# EAGLE library part A133-1034M2 (library saw-filters-narrowband)
A133-1034M2 Параметр Ед. изм. Мин. значение Тип. значение Макс. значение Центральная частота МГц 1033 1034 1035 Минимальное вносимое затухание дБ - 2.6 3.5 Полоса среза по уровню -2 дБ МГц 21 22 23 Полоса среза по уровню -28 дБ МГц - 51 - Неравномерность АЧХ дБ - 0.6 1.5 Групповое время задержки нс - - - Гарантированное затухание дБ - 40 - Температурный диапазон °C -55 22 +85 Материал подложки - - Танталат лития 36 -
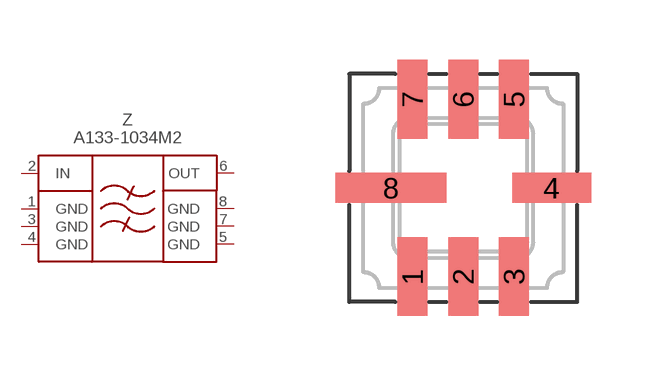
[diagram p93: symbol with the pads of QCC8; footprint QCC8]

Designator prefix Z

## A133-1034M2  [QCC8]
1  GND  pwr
2  IN  in
3  GND  pwr
4  GND  pwr
5  GND  pwr
6  OUT  out
7  GND  pwr
8  GND  pwr

## Footprint QCC8 (pad centres in mm)
smd 0.75 x 1.97: 1 -1.27,-2.215; 2 0,-2.215; 3 1.27,-2.215; 5 1.27,2.215; 6 0,2.215; 7 -1.27,2.215
smd 1.97 x 0.75: 4 2.215,0
smd 2.78 x 0.75: 8 -1.81,0